# EAGLE library part STM8AF62X6T (library BLDCBOMv4)
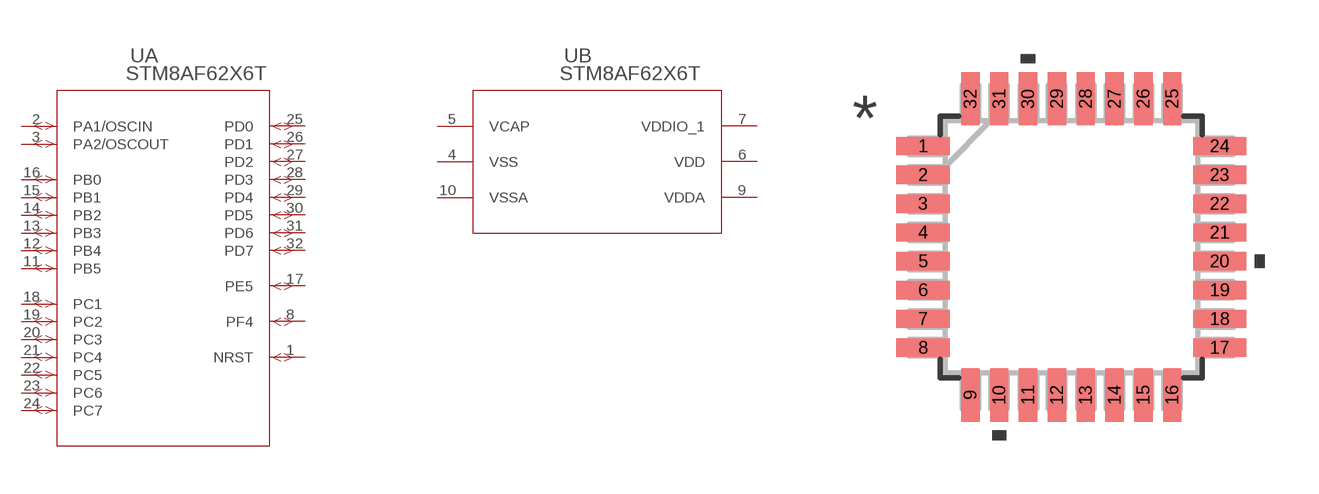
[diagram p6: symbol with the pads of LQFP-32; footprint LQFP-32]

Designator prefix U; gates A=STM8AF62X6T B=STM8AF62X6T_00

## STM8AF62X6T (COPYRIGHT: Copyright (C) 2016 Accelerated Designs. All rights reserved; MANUFACTURER_PART_NUMBER: STM8AF62X6T; VENDOR: STMicroelectronics)  [LQFP-32]
1  A:NRST
2  A:PA1/OSCIN
3  A:PA2/OSCOUT
4  B:VSS  pwr
5  B:VCAP  pwr
6  B:VDD  pwr
7  B:VDDIO_1  pwr
8  A:PF4
9  B:VDDA  pwr
10  B:VSSA  pwr
11  A:PB5
12  A:PB4
13  A:PB3
14  A:PB2
15  A:PB1
16  A:PB0
17  A:PE5
18  A:PC1
19  A:PC2
20  A:PC3
21  A:PC4
22  A:PC5
23  A:PC6
24  A:PC7
25  A:PD0
26  A:PD1
27  A:PD2
28  A:PD3
29  A:PD4
30  A:PD5
31  A:PD6
32  A:PD7

## Footprint LQFP-32 (pad centres in mm)
smd 1.473 x 0.508: 1 -4.115,2.8; 2 -4.115,2; 3 -4.115,1.2; 4 -4.115,0.4; 5 -4.115,-0.4; 6 -4.115,-1.2; 7 -4.115,-2; 8 -4.115,-2.8; 17 4.115,-2.8; 18 4.115,-2; 19 4.115,-1.2; 20 4.115,-0.4; 21 4.115,0.4; 22 4.115,1.2; 23 4.115,2; 24 4.115,2.8
smd 0.508 x 1.473: 9 -2.8,-4.115; 10 -2,-4.115; 11 -1.2,-4.115; 12 -0.4,-4.115; 13 0.4,-4.115; 14 1.2,-4.115; 15 2,-4.115; 16 2.8,-4.115; 25 2.8,4.115; 26 2,4.115; 27 1.2,4.115; 28 0.4,4.115; 29 -0.4,4.115; 30 -1.2,4.115; 31 -2,4.115; 32 -2.8,4.115